# Altium schematic symbol library IC 7812.SchLib: 1 symbol
Pins are listed as number, name and electrical type; pins without a type are passive.

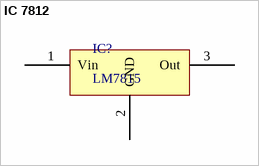
[diagram p0: symbol IC 7812]

## IC 7812
designator IC?, comment LM7815
footprint TO 220H (TO-220 Package)
pins: 1 Vin, 2 GND, 3 Out